# Altium schematic symbol library USB.SchLib: 2 symbols
Pins are listed as number, name and electrical type; pins without a type are passive.

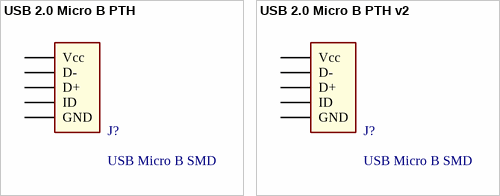
[diagram p0: symbols USB 2.0 Micro B PTH to USB 2.0 Micro B PTH v2]

## USB 2.0 Micro B PTH
designator J?, comment USB Micro B SMD
USB - micro B USB 2.0 Receptacle Connector 5 Position Surface Mount, Right Angle; Through Hole; Manufacturer 1: Amphenol FCI; Manufacturer 1 PN: 10118193-0001LF; ComponentLink1Description: Datasheet; ComponentLink1URL: https://cdn.amphenol-icc.com/media/wysiwyg/files/documentation/datasheet/inputoutput/io_usb_micro.pdf; ComponentLink2Description: Drawing; ComponentLink2URL: https://www.amphenol-icc.com/media/wysiwyg/files/drawing/10118193.pdf; Digikey PN: 609-4616-1-ND
footprint USB 2.0 Micro B PTH (USB - micro B USB 2.0 Receptacle Connector 5 Position Surface Mount, Right Angle; Through Hole)
pins: D+, D-, GND, ID, Vcc

## USB 2.0 Micro B PTH v2
designator J?, comment USB Micro B SMD
USB - micro B USB 2.0 Receptacle Connector 5 Position Surface Mount, Right Angle; Through Hole; Manufacturer 1: CUI Inc.; Manufacturer 1 PN: UJ2-MIBH2-4-SMT-TR; ComponentLink1Description: Datasheet; ComponentLink1URL: https://cdn.amphenol-icc.com/media/wysiwyg/files/documentation/datasheet/inputoutput/io_usb_micro.pdf; Digikey PN: 102-4007-1-ND
footprint USB 2.0 Micro B PTH v2 (USB - micro B USB 2.0 Receptacle Connector 5 Position Surface Mount, Right Angle; Through Hole)
pins: D+, D-, GND, ID, Vcc